# Altium footprint library iTOP4412_main_Clasics_v3_2.PcbLib: 41 footprints (part 2 of 3)
Each footprint in its own frame and in the unit in brackets; x right, y up, seen from the top. Pads: shape width x height; smd on the part's side, far side on the other; paste and mask are expansions set on the pad; w line width, h text height; cw(c..) or ccw(c..) is an arc to the next point about the centre after c.
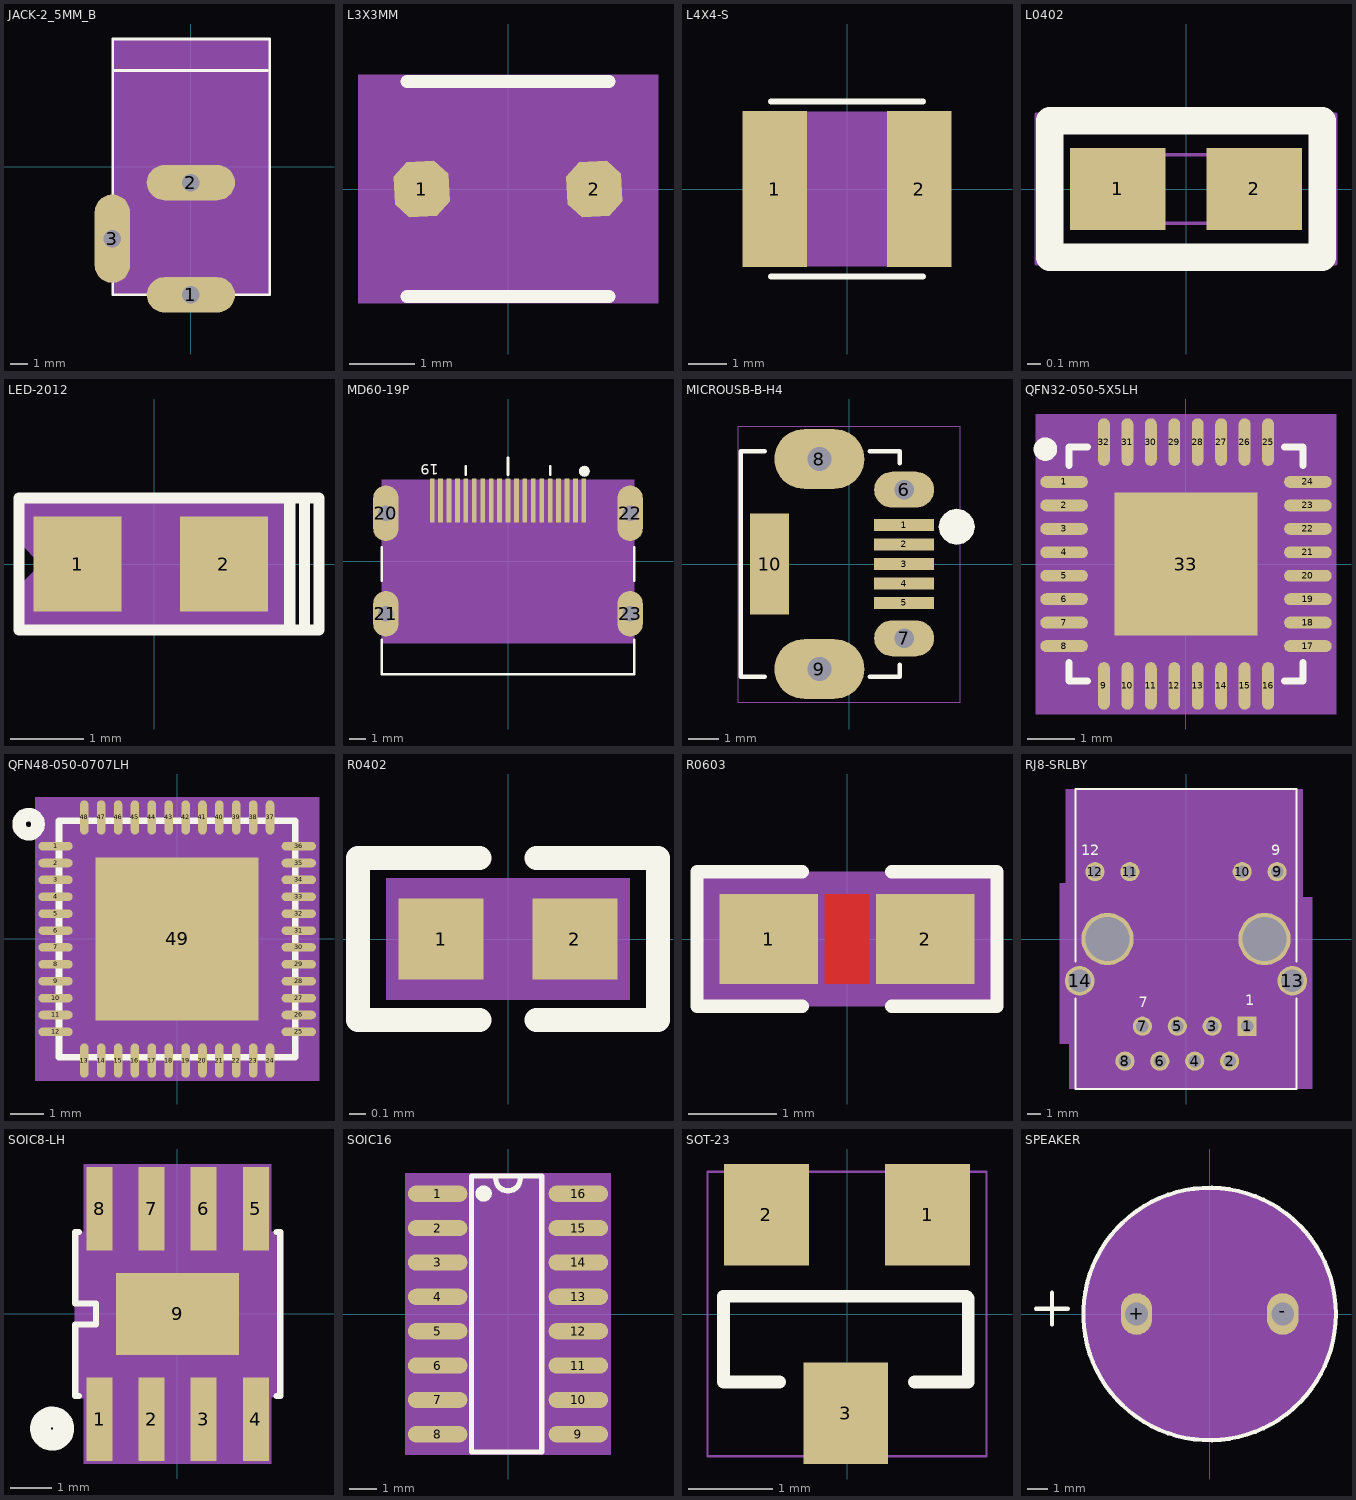
[diagram p1: the footprints below, top view; thin cyan lines are the x and y axes]

## JACK-2_5MM_B [mm] "JACK-2_5MM_B"
pads (3):
  oval 5x2 / inner round 1.524 / far side oval 5x2 hole 1: 1(0,-7.239) 2(0,-0.889)
  oval 2x5 / inner round 1.524 / far side oval 2x5 hole 1: 3(-4.445,-4.064)
Top Overlay:
  lines w0.152: -4.318,5.461 4.318,5.461 ; -4.42,-7.239 -4.42,7.239 4.47,7.239 4.47,-7.239 -4.42,-7.239
Mechanical 9:
  text "1" at -0.254,-7.239 h0.64
  text "3" at -4.699,-4.064 h0.64
  text "2" at -0.254,-0.889 h0.64
Mechanical 10:
  region: -4.445,0.254 -4.445,-7.239 2.54,-7.239 4.445,-7.239 4.445,7.239 -4.445,7.239

## L3X3MM [mm] "L3X3MM"
pads (2):
  oct 0.846x0.846 smd rot 93: 1(-1.325,0) 2(1.325,0)
Top Overlay:
  lines w0.2: -1.55,-1.65 1.55,-1.65 ; -1.55,1.65 1.55,1.65
Mechanical 9:
  text "1" at -1.325,-0.16 h0.4
  text "2" at 1.325,-0.16 h0.4
Mechanical 10:
  region: -2.3,-1.75 2.3,-1.75 2.3,1.75 -2.3,1.75
Mechanical 12:
  pour cut-out: -1.55,-1.55 1.55,-1.55 1.55,1.55 -1.55,1.55

## L4X4-S [mil] "L4X4-S"
pads (2):
  rect 67x161 smd: 1(-74.8,0) 2(74.8,0)
Top Overlay:
  lines w6: -78.74,-90.55 78.74,-90.55 ; -78.74,90.55 78.74,90.55
Mechanical 9:
  region: -105,80 105,80 105,-80 -105,-80

## L0402 [mm] "L0402"
pads (2):
  rect 0.7x0.6 smd: 1(-0.5,0) 2(0.5,0)
Top Overlay:
  lines w0.2: -1,-0.5 1,-0.5 1,0.5 -1,0.5 -1,-0.5
Mechanical 9:
  text "2" at 0.5,0 h0.6
  text "1" at -0.5,0 h0.6
Mechanical 10:
  lines w0.025: -1.1,-0.55 1.1,-0.55 1.1,0.55 -1.1,0.55 -1.1,-0.55
  text "1.1" at -1.1,-0.55 h0.6
Mechanical 14:
  lines w0.025: -0.5,-0.25 -0.5,0.25 0.5,0.25 0.5,-0.25 -0.5,-0.25
Mechanical 15:
  text "[s0.7x0.6]" at -2.4,-2.178 h0.6

## LED-2012 [mm] "LED-2012"
pads (2):
  rect 1.2x1.3 smd: 1(-1.05,0) 2(0.95,0)
Top Overlay:
  lines w0.152: 1.85,-0.9 2.05,-0.9 ; 1.85,-0.9 -1.85,-0.9 -1.85,0.9 1.85,0.9 ; 1.85,-0.9 1.85,0.9 ; 1.85,0.9 2.05,0.9 ; 2.05,-0.9 2.25,-0.9 2.25,0.9 2.05,0.9 ; 2.05,-0.9 2.05,0.9
Mechanical 9:
  text "2" at 0.95,0 h0.6
  text "1" at -1.05,0 h0.6
Mechanical 10:
  region: -1.85,-0.9 -1.85,-0.3 -1.55,0 -1.85,0.3 -1.85,0.9 1.85,0.9 1.85,-0.9
  text "1.8" at -1.95,-0.9 h0.6
Mechanical 14:
  lines w0.025: -1.05,-0.6 -1.05,0.6 0.95,0.6 0.95,-0.6 -1.05,-0.6
Mechanical 15:
  text "[s1.2x1.3]" at -2.45,-2.878 h0.6

## MD60-19P [mm] "MD60-19P"
pads (23):
  rect 0.28x2.6 smd: 1(4.5,3.61) 2(4,3.61) 3(3.5,3.61) 4(3,3.61) 5(2.5,3.61) 6(2,3.61) 7(1.5,3.61) 8(1,3.61) 9(0.5,3.61) 10(0,3.61) 11(-0.5,3.61) 12(-1,3.61) 13(-1.5,3.61) 14(-2,3.61) 15(-2.5,3.61) 16(-3,3.61) 17(-3.5,3.61) 18(-4,3.61) 19(-4.5,3.61)
  oval 1.5x3.3 / inner round 1.524 / far side oval 1.5x3.3 hole 0.9: 20(-7.25,2.85) 22(7.25,2.85)
  oval 1.5x2.7 / inner round 1.524 / far side oval 1.5x2.7 hole 0.9: 21(-7.25,-3.11) 23(7.25,-3.11)
Top Overlay:
  pour cut-out: 4.215,5.349 4.239,5.226 4.309,5.121 4.414,5.051 4.537,5.027 4.66,5.051 4.765,5.121 4.835,5.226 4.859,5.349 4.835,5.472 4.765,5.577 4.66,5.647 4.537,5.672 4.414,5.647 4.309,5.577 4.239,5.472
  lines w0.15: -7.5,-4.65 -7.5,-6.7 7.5,-6.7 7.5,-4.65 ; -7.5,-1.15 -7.5,0.85 ; 7.5,-1.15 7.5,0.85
  lines w0.152: -2.5,5.15 -2.5,5.65 ; 0,5.15 0,6.15 ; 2.5,5.15 2.5,5.65
  text "19" at -4.1,5.75 h0.64
Mechanical 9:
  text "14" at -1.492,3.61 h0.64
  text "13" at -0.992,3.61 h0.64
  text "18" at -3.492,3.61 h0.64
  text "19" at -3.992,3.61 h0.64
  text "2" at 4.254,3.61 h0.64
  text "5" at 2.754,3.61 h0.64
  text "8" at 1.254,3.61 h0.64
  text "22" at 7.758,2.85 h0.64
  text "20" at -6.742,2.85 h0.64
  text "23" at 7.758,-3.11 h0.64
  text "21" at -6.742,-3.11 h0.64
  text "11" at 0.008,3.61 h0.64
  text "3" at 3.754,3.61 h0.64
  text "6" at 2.254,3.61 h0.64
  text "10" at 0.508,3.61 h0.64
  text "16" at -2.492,3.61 h0.64
  text "12" at -0.492,3.61 h0.64
  text "15" at -1.992,3.61 h0.64
  text "7" at 1.754,3.61 h0.64
  text "1" at 4.754,3.61 h0.64
  text "4" at 3.254,3.61 h0.64
  text "17" at -2.992,3.61 h0.64
  text "9" at 0.754,3.61 h0.64
Mechanical 10:
  region: -7.5,4.85 -7.5,-4.85 7.5,-4.85 7.5,4.85

## MICROUSB-B-H4 [mm] "MICROUSB-B-H4"
pads (10):
  rect 2x0.4 smd: 1(1.83,1.3) 2(1.83,0.65) 3(1.83,0) 4(1.83,-0.65) 5(1.83,-1.3)
  oval 2x1.2 / inner round 1.524 / far side oval 2x1.2 hole 0.65: 6(1.83,2.475) 7(1.83,-2.475)
  oval 3x2 / inner round 1.524 / far side oval 3x2 hole 0.8: 8(-0.995,3.5) 9(-0.995,-3.5)
  rect 1.3x3.35 smd: 10(-2.65,0)
Top Overlay:
  pour cut-out: 4.177,1.24 4.132,1.468 4.003,1.661 3.81,1.789 3.582,1.835 3.355,1.789 3.162,1.661 3.033,1.468 2.988,1.24 3.033,1.013 3.162,0.82 3.355,0.691 3.582,0.646 3.81,0.691 4.003,0.82 4.132,1.013
  lines w0.15: -2.82,-3.75 -3.62,-3.75 -3.62,3.75 -2.82,3.75 ; 0.68,-3.75 1.68,-3.75 1.68,-3.35 ; 0.68,3.75 1.68,3.75 1.68,3.35
Mechanical 9:
  text "1" at 1.59,1.3 h0.6
  text "10" at -2.34,0 h0.6
  text "7" at 1.35,-2.475 h0.6
  text "6" at 1.35,2.475 h0.6
  text "9" at -1.475,-3.5 h0.6
  text "8" at -1.475,3.5 h0.6
  text "5" at 1.59,-1.3 h0.6
  text "4" at 1.59,-0.65 h0.6
  text "2" at 1.59,0.65 h0.6
  text "3" at 1.59,0 h0.6
Mechanical 10:
  lines w0.025: -3.695,-4.6 -3.695,4.6 3.695,4.6 3.695,-4.6 -3.695,-4.6

## QFN32-050-5X5LH [mil] "QFN32-050-5X5LH"
pads (33):
  oval 40x10 smd: 1(-102.36,68.9) 2(-102.36,49.21) 3(-102.36,29.53) 4(-102.36,9.84) 5(-102.36,-9.84) 6(-102.36,-29.53) 7(-102.36,-49.21) 8(-102.36,-68.9) 17(102.36,-68.9) 18(102.36,-49.21) 19(102.36,-29.53) 20(102.36,-9.84) 21(102.36,9.84) 22(102.36,29.53) 23(102.36,49.21) 24(102.36,68.9)
  oval 10x40 smd: 9(-68.9,-102.36) 10(-49.21,-102.36) 11(-29.53,-102.36) 12(-9.84,-102.36) 13(9.84,-102.36) 14(29.53,-102.36) 15(49.21,-102.36) 16(68.9,-102.36) 25(68.9,102.36) 26(49.21,102.36) 27(29.53,102.36) 28(9.84,102.36) 29(-9.84,102.36) 30(-29.53,102.36) 31(-49.21,102.36) 32(-68.9,102.36)
  rect 120x120 smd: 33(0,0)
Top Overlay:
  circle w9.84: c-118.11,96.46 r4.92
  lines w5.98: -98.42,-82.68 -98.42,-98.42 -82.68,-98.42 ; -98.42,82.68 -98.42,98.43 -82.68,98.43 ; 82.68,-98.42 98.42,-98.42 98.42,-82.68 ; 82.68,98.43 98.42,98.43 98.42,82.68
Mechanical 9:
  text "32" at -61.02,114.96 h15.75
  text "15" at 57.09,-89.76 h15.75
  text "4" at -102.36,8.27 h15.75
  text "27" at 37.4,114.96 h15.75
  text "1" at -102.36,67.32 h15.75
  text "3" at -102.36,27.95 h15.75
  text "2" at -102.36,47.64 h15.75
  text "5" at -102.36,-11.42 h15.75
  text "6" at -102.36,-31.1 h15.75
  text "7" at -102.36,-50.79 h15.75
  text "30" at -21.65,114.96 h15.75
  text "10" at -41.34,-89.76 h15.75
  text "8" at -102.36,-70.47 h15.75
  text "19" at 102.36,-24.8 h15.75
  text "25" at 76.77,114.96 h15.75
  text "29" at -1.97,114.96 h15.75
  text "22" at 102.36,34.25 h15.75
  text "31" at -41.34,114.96 h15.75
  text "21" at 102.36,14.57 h15.75
  text "26" at 57.09,114.96 h15.75
  text "23" at 102.36,53.94 h15.75
  text "13" at 17.72,-89.76 h15.75
  text "17" at 102.36,-64.17 h15.75
  text "18" at 102.36,-44.49 h15.75
  text "20" at 102.36,-5.12 h15.75
  text "28" at 17.72,114.96 h15.75
  text "33" at -50,40 h25
  text "9" at -61.02,-96.06 h15.75
  text "24" at 102.36,73.62 h15.75
  text "16" at 76.77,-89.76 h15.75
  text "11" at -21.65,-89.76 h15.75
  text "14" at 37.4,-89.76 h15.75
  text "12" at -1.97,-89.76 h15.75
Mechanical 10:
  region: -125.98,-125.98 125.98,-125.98 125.98,125.98 -125.98,125.98
Mechanical 12:
  pour cut-out: -100.39,-100.39 100.39,-100.39 100.39,100.39 -100.39,100.39

## QFN48-050-0707LH [mil] "QFN48-050-0707LH"
pads (49):
  oval 40x10 smd: 1(-141.73,108.27) 2(-141.73,88.58) 3(-141.73,68.9) 4(-141.73,49.21) 5(-141.73,29.53) 6(-141.73,9.84) 7(-141.73,-9.84) 8(-141.73,-29.53) 9(-141.73,-49.21) 10(-141.73,-68.9) 11(-141.73,-88.58) 12(-141.73,-108.27) 25(141.73,-108.27) 26(141.73,-88.58) 27(141.73,-68.9) 28(141.73,-49.21) 29(141.73,-29.53) 30(141.73,-9.84) 31(141.73,9.84) 32(141.73,29.53) 33(141.73,49.21) 34(141.73,68.9) 35(141.73,88.58) 36(141.73,108.27)
  oval 10x40 smd: 13(-108.27,-141.73) 14(-88.58,-141.73) 15(-68.9,-141.73) 16(-49.21,-141.73) 17(-29.53,-141.73) 18(-9.84,-141.73) 19(9.84,-141.73) 20(29.53,-141.73) 21(49.21,-141.73) 22(68.9,-141.73) 23(88.58,-141.73) 24(108.27,-141.73) 37(108.27,141.73) 38(88.58,141.73) 39(68.9,141.73) 40(49.21,141.73) 41(29.53,141.73) 42(9.84,141.73) 43(-9.84,141.73) 44(-29.53,141.73) 45(-49.21,141.73) 46(-68.9,141.73) 47(-88.58,141.73) 48(-108.27,141.73)
  rect 190x190 smd: 49(0,0)
Top Overlay:
  circle w15.75: c-173.23,133.86 r11.14
  lines w7.87: -137.8,-137.8 137.79,-137.8 137.79,137.79 -137.8,137.79 -137.8,-137.8
Mechanical 9:
  text "12" at -141.73,-103.54 h15.75
  text "2" at -141.73,87.01 h15.75
  text "13" at -100.39,-129.13 h15.75
  text "5" at -141.73,27.95 h15.75
  text "31" at 141.73,14.57 h15.75
  text "4" at -141.73,47.64 h15.75
  text "28" at 141.73,-44.49 h15.75
  text "47" at -80.71,154.33 h15.75
  text "20" at 37.4,-129.13 h15.75
  text "30" at 141.73,-5.12 h15.75
  text "9" at -141.73,-50.79 h15.75
  text "21" at 57.09,-129.13 h15.75
  text "39" at 76.77,154.33 h15.75
  text "8" at -141.73,-31.1 h15.75
  text "29" at 141.73,-24.8 h15.75
  text "34" at 141.73,73.62 h15.75
  text "10" at -141.73,-64.17 h15.75
  text "3" at -141.73,67.32 h15.75
  text "44" at -21.65,154.33 h15.75
  text "22" at 76.77,-129.13 h15.75
  text "32" at 141.73,34.25 h15.75
  text "46" at -61.02,154.33 h15.75
  text "45" at -41.34,154.33 h15.75
  text "42" at 17.72,154.33 h15.75
  text "37" at 116.14,154.33 h15.75
  text "24" at 116.14,-129.13 h15.75
  text "40" at 57.09,154.33 h15.75
  text "41" at 37.4,154.33 h15.75
  text "7" at -141.73,-11.42 h15.75
  text "6" at -141.73,8.27 h15.75
  text "16" at -41.34,-129.13 h15.75
  text "43" at -1.97,154.33 h15.75
  text "38" at 96.46,154.33 h15.75
  text "48" at -100.39,154.33 h15.75
  text "49" at 0,20 h25
  text "1" at -141.73,106.69 h15.75
  text "36" at 141.73,112.99 h15.75
  text "35" at 141.73,93.31 h15.75
  text "33" at 141.73,53.94 h15.75
  text "27" at 141.73,-64.17 h15.75
  text "11" at -141.73,-83.86 h15.75
  text "25" at 141.73,-103.54 h15.75
  text "26" at 141.73,-83.86 h15.75
  text "17" at -21.65,-129.13 h15.75
  text "14" at -80.71,-129.13 h15.75
  text "15" at -61.02,-129.13 h15.75
  text "19" at 17.72,-129.13 h15.75
  text "18" at -1.97,-129.13 h15.75
  text "23" at 96.46,-129.13 h15.75
Mechanical 10:
  region: -165.35,-165.35 165.35,-165.35 165.35,165.35 -165.35,165.35
Mechanical 12:
  pour cut-out: -139.76,-139.76 139.76,-139.76 139.76,139.76 -139.76,139.76

## R0402 [mil] "R0402"
pads (2):
  rect 21x20 smd: 1(-16.5,0) 2(16.5,0)
Top Overlay:
  lines w5.98: -7.01,-20 -37.01,-20 -37.01,20 -7.01,20 ; 7.01,-20 37.01,-20 37.01,20 7.01,20
Mechanical 9:
  text "2" at 26.5,0 h25
  text "1" at -6.5,0 h25
Mechanical 10:
  region: 30,15 -30,15 -30,-15 30,-15

## R0603 [mil] "R0603"
pads (2):
  rect 44x40 smd: 1(-35,0) 2(35,0)
Top Layer:
  region: -10,-20 10,-20 10,20 -10,20
Top Overlay:
  lines w5.98: -20,-30 -67.01,-30 -67.01,30 -20,30 ; 20,-30 67.01,-30 67.01,30 20,30
Mechanical 9:
  text "2" at 25,0 h25
  text "1" at -45,0 h25
Mechanical 10:
  region: -65,-30 65,-30 65,30 -65,30

## RJ8-SRLBY [mil] "RJ8-SRLBY"
pads (16):
  rect 55x55 / inner round 60 / far side rect 55x55 hole 36: 1(175,-250)
  round 55 / inner round 60 / far side round 55 hole 36: 2(125,-350) 3(75,-250) 4(25,-350) 5(-25,-250) 6(-75,-350) 7(-125,-250) 8(-175,-350) 9(260.98,192.99) 10(160.98,192.99) 11(-160.98,192.99) 12(-260.98,192.99)
  round 85 / inner round 60 / far side round 80 hole 65: 13(305,-120) 14(-305,-120)
  round 150 / inner round 60 / far side round 150 hole 126: " "(-225,0) " "(225,0)
Top Overlay:
  lines w5.98: -317.01,-170 -317.01,-430 317.01,-430 317.01,-170 ; -317.01,-65 -317.01,430 317.01,430 317.01,-65
  text "12" at -300,240 h30
  text "9" at 245,240 h30
  text "7" at -135,-195 h30
  text "1" at 170,-190 h30
Mechanical 9:
  text "6" at -75,-340 h25
  text "3" at 75,-240 h25
  text "11" at -160.99,212.99 h25
  text "4" at 25,-340 h25
  text "5" at -25,-240 h25
  text "2" at 125,-340 h25
  text "1" at 175,-240 h25
  text "10" at 160.98,212.99 h25
  text "12" at -260.99,212.99 h25
  text "9" at 260.98,202.99 h25
  text "8" at -175,-340 h25
  text "13" at 305,-100 h25
  text "14" at -305,-100 h25
  text "7" at -125,-240 h25
Mechanical 10:
  region: -345,430 335,430 335,120 362.01,120 362.01,-430 -335,-430 -335,-300 -362.01,-300 -362.01,160 -345,160
Mechanical 11:
  lines w5.98: -317.01,-430 317.01,-430 317.01,430 -317.01,430 -317.01,-430

## SOIC8-LH [mil] "SOIC8-LH"
pads (9):
  rect 25x80 smd: 1(-74.5,-101.06) 2(-24.5,-101.06) 3(25.5,-101.06) 4(75.5,-101.06) 5(75.5,101.06) 6(25.5,101.06) 7(-24.5,101.06) 8(-74.5,101.06)
  rect 118.11x78.74 smd: 9(0.5,0)
Top Overlay:
  circle w20: c-120,-110 r11.18
  lines w6: -94.5,-78.74 -97.93,-78.74 -97.93,-10 -77.93,-10 -77.93,10 -97.93,10 -97.93,78.74 -94.5,78.74 ; 95.5,-78.74 98.93,-78.74 98.93,78.74 95.5,78.74
Mechanical 9:
  text "7" at -14.5,101.06 h25
  text "1" at -64.5,-101.06 h25
  text "5" at 85.5,101.06 h25
  text "2" at -14.5,-101.06 h25
  text "6" at 35.5,101.06 h25
  text "4" at 85.5,-101.06 h25
  text "3" at 35.5,-101.06 h25
  text "9" at 10.58,0 h25.2
  text "8" at -64.5,101.06 h25
Mechanical 10:
  region: -89.5,-144 -89.5,-81 -98.5,-81 -98.5,79 -89.5,79 -89.5,144 90.5,144 90.5,79 98.5,79 98.5,-80 90.5,-80 90.5,-144

## SOIC16 [mm] "SOIC16"
pads (16):
  oval 2.2x0.6 smd: 1(-2.6,4.445) 2(-2.6,3.175) 3(-2.6,1.905) 4(-2.6,0.635) 5(-2.6,-0.635) 6(-2.6,-1.905) 7(-2.6,-3.175) 8(-2.6,-4.445) 9(2.6,-4.445) 10(2.6,-3.175) 11(2.6,-1.905) 12(2.6,-0.635) 13(2.6,0.635) 14(2.6,1.905) 15(2.6,3.175) 16(2.6,4.445)
Top Overlay:
  circle w0.3: c-0.9,4.45 r0.15
  lines w0.2: -0.45,5 ccw(c0,5) 0.45,5 ; -1.35,-5.1 1.25,-5.1 1.25,5.1 -1.3,5.1 -1.35,5.1 -1.35,-5.1
Mechanical 9:
  text "3" at -2.6,1.702 h0.51
  text "11" at 2.6,-2.311 h0.51
  text "12" at 2.6,-1.041 h0.51
  text "1" at -2.6,4.242 h0.51
  text "10" at 2.6,-3.581 h0.51
  text "9" at 2.6,-4.648 h0.51
  text "16" at 2.6,4.039 h0.51
  text "7" at -2.6,-3.378 h0.51
  text "8" at -2.6,-4.648 h0.51
  text "6" at -2.6,-2.108 h0.51
  text "4" at -2.6,0.432 h0.51
  text "13" at 2.6,0.229 h0.51
  text "2" at -2.6,2.972 h0.51
  text "5" at -2.6,-0.838 h0.51
  text "14" at 2.6,1.499 h0.51
  text "15" at 2.6,2.769 h0.51
Mechanical 10:
  region: -3.8,-5.2 3.8,-5.2 3.8,5.2 -3.8,5.2

## SOT-23 [mm] "SOT-23"
pads (3):
  rect 1x1.2 smd: 1(0.953,1.175) 2(-0.953,1.175) 3(-0.013,-1.175)
Top Overlay:
  lines w0.152: -0.8,-0.806 -1.46,-0.806 -1.46,0.21 1.41,0.21 1.435,0.184 1.435,-0.806 0.8,-0.806
Mechanical 9:
  text "3" at -0.267,-1.175 h0.64
  text "1" at 0.699,1.175 h0.64
  text "2" at -1.206,1.175 h0.64
Mechanical 10:
  lines w0.025: -1.651,-1.683 1.651,-1.683 1.651,1.683 -1.651,1.683 -1.651,-1.683

## SPEAKER [mm] "SPEAKER"
pads (2):
  oval 1.5x2 / inner round 1.524 / far side oval 1.5x2 hole 1.1: +(-3.504,0) -(3.504,0)
Top Overlay:
  circle w0.2: c0,0 r6.052
  lines w0.203: -8.322,0.254 -6.798,0.254 ; -7.56,-0.508 -7.56,1.016
Mechanical 9:
  text "-" at 10.258,0 h0.64
  text "+" at -4.266,0 h0.64
Mechanical 10:
  pour cut-out: 6.056,0 6.018,0.678 5.904,1.348 5.716,2 5.456,2.627 5.128,3.222 4.735,3.776 4.282,4.282 3.776,4.735 3.222,5.128 2.628,5.456 2,5.716 1.348,5.904 0.678,6.018 0,6.056 -0.678,6.018 -1.347,5.904 -2,5.716 -2.627,5.456 -3.222,5.128 -3.776,4.735 -4.282,4.282 -4.735,3.776 -5.127,3.222 -5.456,2.627 -5.716,2 -5.904,1.348 -6.018,0.678 -6.056,0 -6.018,-0.678 -5.904,-1.348 -5.716,-2 -5.456,-2.627 -5.127,-3.222 -4.735,-3.776 -4.282,-4.282 -3.776,-4.735 -3.222,-5.128 -2.627,-5.456 -2,-5.716 -1.347,-5.904 -0.678,-6.018 0,-6.056 0.678,-6.018 1.348,-5.904 2,-5.716 2.628,-5.456 3.222,-5.128 3.776,-4.735 4.282,-4.282 4.735,-3.776 5.128,-3.222 5.456,-2.627 5.716,-2 5.904,-1.348 6.018,-0.678